# Altium schematic symbol library CAN.SchLib: 6 symbols
Pins are listed as number, name and electrical type; pins without a type are passive.

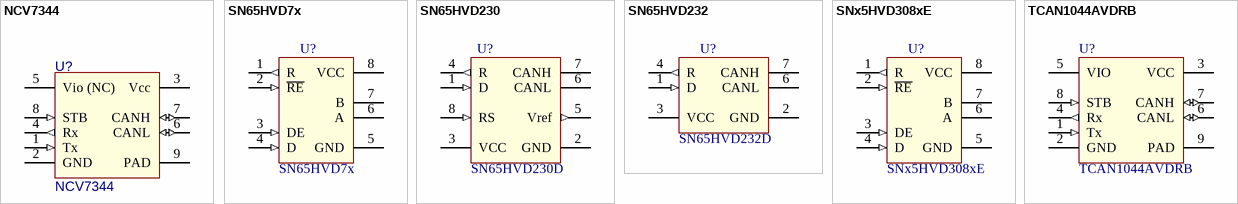
[diagram p0: symbols NCV7344 to TCAN1044AVDRB]

## NCV7344
designator U?
High Speed Low Power / CAN, CAN FD Transceiver; Value: NCV7344AMW3R2G
footprint DFN-8-3x3 (507AB) (DFN, 8-Leads, Body 3.00x3.00mm, Pitch 0.65mm, Thermal Pad 1.70x2.60mm, IPC Medium Density)
pins: 1 Tx (in) "Transmit data input; low input  dominant driver; internal pull−up current", 2 GND (power), 3 Vcc (power), 4 Rx (out) "Receive data output; dominant transmitter  low output", 5 Vio (NC) (power), 6 CANL (io), 7 CANH (io), 8 STB (in), 9 PAD (power)

## SN65HVD7x
designator U?
3.3-V Supply RS-485 With IEC ESD protection; Value: SN65HVD7x
footprint SO-8_N (8-Pin Small Outline Integrated Circuit 1.27 mm Pitch, IPC Medium Density)
pins: 1 R (out), 2 ~{RE} (in), 3 DE (in), 4 D (in), 5 GND (power), 6 A, 7 B, 8 VCC (power)

## SN65HVD230
designator U?  value SN65HVD230D  (hidden comment: SN65HVD230)
footprint D008_N (8-Pin Small Outline Integrated Circuit 1.27 mm Pitch, IPC Medium Density)
pins: 1 D (in), 2 GND (power), 3 VCC (power), 4 R (out), 5 Vref (out), 6 CANL, 7 CANH, 8 RS (in)

## SN65HVD232
designator U?  value SN65HVD232D  (hidden comment: SN65HVD232)
footprint D008_N (8-Pin Small Outline Integrated Circuit 1.27 mm Pitch, IPC Medium Density)
pins: 1 D (in), 2 GND (power), 3 VCC (power), 4 R (out), 6 CANL, 7 CANH

## SNx5HVD308xE
designator U?
Low-Power RS-485 Transceivers, Available in a Small MSOP-8 Package; Value: SNx5HVD308xE
footprint D008_N (8-Pin Small Outline Integrated Circuit 1.27 mm Pitch, IPC Medium Density)
pins: 1 R (out), 2 ~{RE} (in), 3 DE (in), 4 D (in), 5 GND (power), 6 A, 7 B, 8 VCC (power)

## TCAN1044AVDRB
designator U?
Fault-Protected CAN FD Transceiver with Standby mode; Value: TCAN1044AVDRB
footprint SON-8-3x3 (VSON, 8-Leads, Body 3,00x3,00mm, Pitch 0,65mm, Thermal Pad 2,40x1,62mm, IPC Medium Density)
pins: 1 Tx (in), 2 GND (power), 3 VCC (power), 4 Rx (out), 5 VIO (power), 6 CANL (io), 7 CANH (io), 8 STB (in), 9 PAD (power)